# Altium integrated library ISSI SRAM Asynchronous SRAM Lower Power.IntLib: 204 symbols (part 4 of 9)
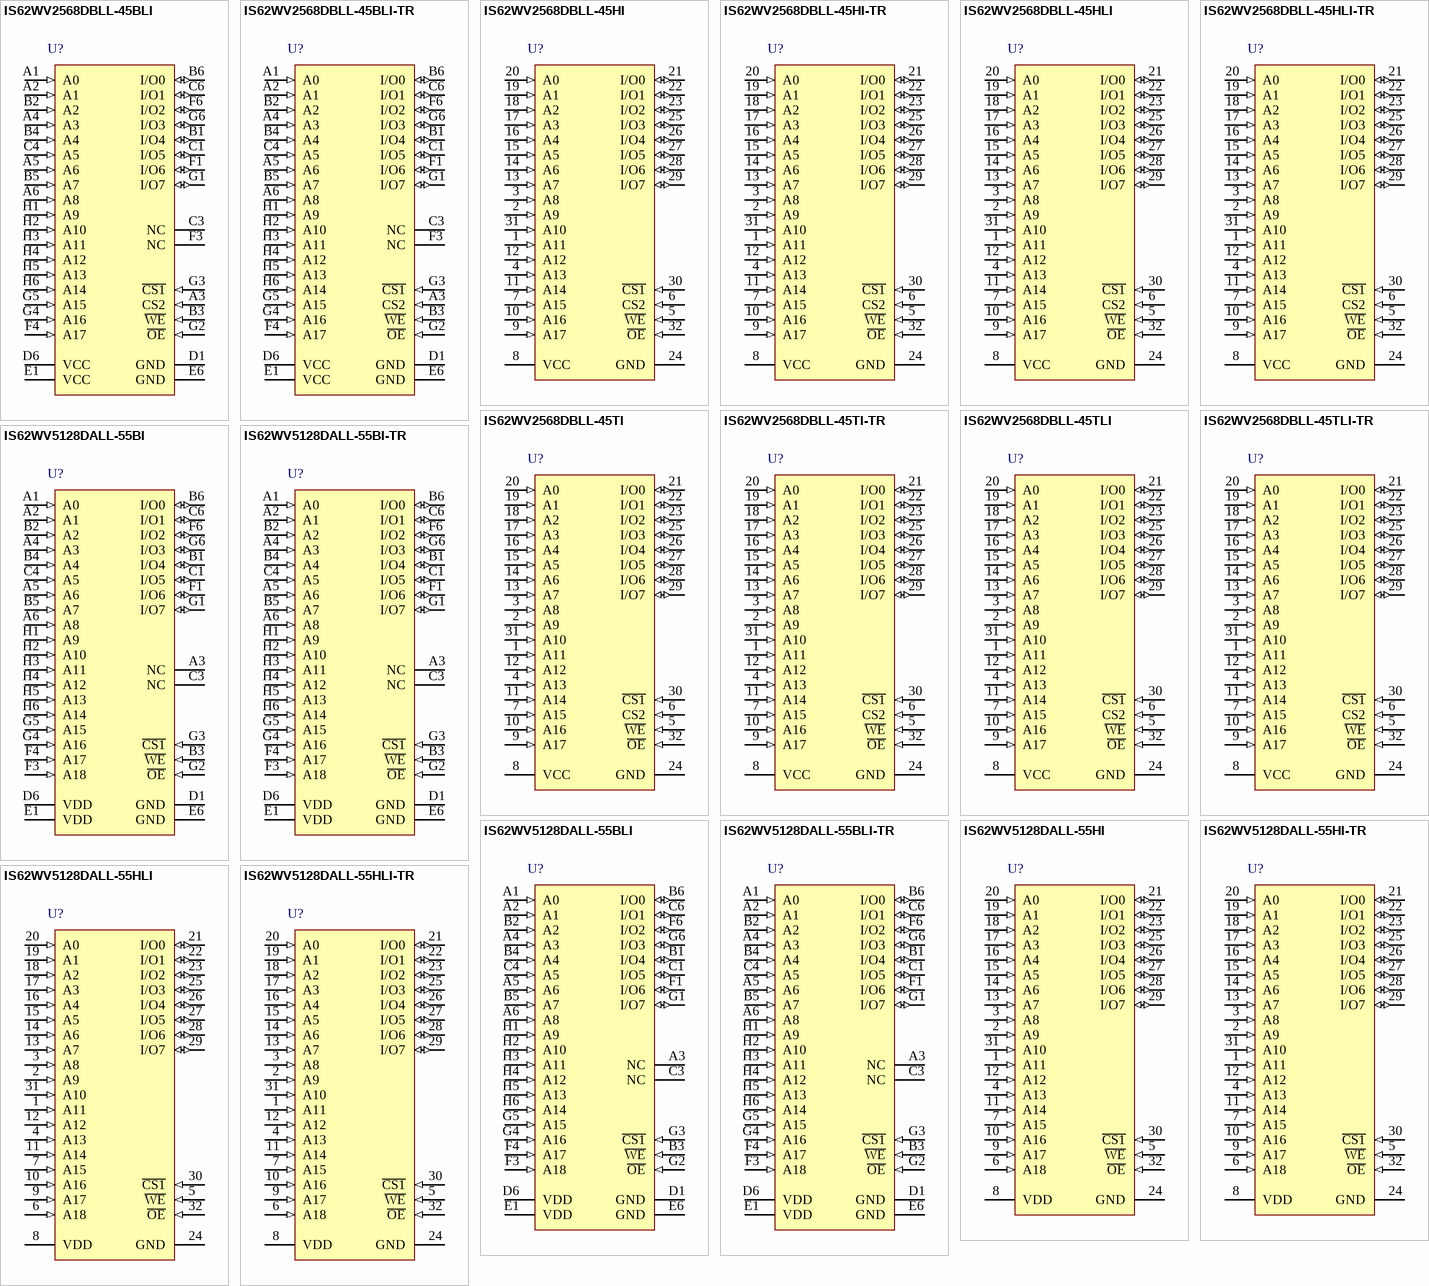
[diagram p14: symbols IS62WV2568DBLL-45BLI to IS62WV5128DALL-55HLI-TR]

## IS62WV5128DALL-55HI-TR
designator U?
4 M Low Voltage, Ultra Low Power CMOS SRAM, 512 K x 8, -40 to 85 degC, 32-Pin SOP (TSOP-1-32); Manufacturer: Integrated Silicon Solution Inc (ISSI); PartNumber: IS62WV5128DALL-55HI-TR; Organization: 512K x 8; Packing: Tape & Reel; Speed (ns): 55; DatasheetVersion: Rev. A; PackageVersion: Rev. B, 04/2003; PackageReference: TSOP-1-32; PackageDescription: 32-Pin 8.00 x 13.4 mm TSOP-1, Pitch 0.5 mm; Mounting Technology: Surface Mount; ComponentLink1Description: Manufacturer URL; ComponentLink1URL: http://www.issi.com/US/index.shtml; ComponentLink2Description: Datasheet; ComponentLink2URL: http://www.issi.com/WW/pdf/62-65WV5128DALL-DBLL.pdf; ComponentLink3Description: Package Specification; ComponentLink3URL: http://www.issi.com/WW/pdf/61-64C1024AL.pdf
footprint ISSI-TSOP-1-32-8000x13400DE_N (SOP, 32-Leads, Body 11.9x8.1mm, Pitch 0.5mm, IPC Medium Density)
pins: 1 A11 (in) "Address Input", 2 A9 (in) "Address Input", 3 A8 (in) "Address Input", 4 A13 (in) "Address Input", 5 ~{WE} (in) "Write Enable Input", 6 A18 (in) "Address Input", 7 A15 (in) "Address Input", 8 VDD (power) "Power", 9 A17 (in) "Address Input", 10 A16 (in) "Address Input", 11 A14 (in) "Address Input", 12 A12 (in) "Address Input", 13 A7 (in) "Address Input", 14 A6 (in) "Address Input", 15 A5 (in) "Address Input", 16 A4 (in) "Address Input", 17 A3 (in) "Address Input", 18 A2 (in) "Address Input", 19 A1 (in) "Address Input", 20 A0 (in) "Address Input", 21 I/O0 (io) "Input/Output", 22 I/O1 (io) "Input/Output", 23 I/O2 (io) "Input/Output", 24 GND (power) "Ground", 25 I/O3 (io) "Input/Output", 26 I/O4 (io) "Input/Output", 27 I/O5 (io) "Input/Output", 28 I/O6 (io) "Input/Output", 29 I/O7 (io) "Input/Output", 30 ~{CS1} (in) "Chip Enable 1 Input", 31 A10 (in) "Address Input", 32 ~{OE} (in) "Output Enable Input"

## IS62WV5128DALL-55HLI
designator U?
4 M Low Voltage, Ultra Low Power CMOS SRAM, 512 K x 8, -40 to 85 degC, 32-Pin SOP (TSOP-1-32), Pb-Free; Manufacturer: Integrated Silicon Solution Inc (ISSI); PartNumber: IS62WV5128DALL-55HLI; Organization: 512K x 8; Packing: Tray / Tube; Speed (ns): 55; DatasheetVersion: Rev. A; PackageVersion: Rev. B, 04/2003; PackageReference: TSOP-1-32; PackageDescription: 32-Pin 8.00 x 13.4 mm TSOP-1, Pitch 0.5 mm; RoHS: Pb-Free; Mounting Technology: Surface Mount; ComponentLink1Description: Manufacturer URL; ComponentLink1URL: http://www.issi.com/US/index.shtml; ComponentLink2Description: Datasheet; ComponentLink2URL: http://www.issi.com/WW/pdf/62-65WV5128DALL-DBLL.pdf; ComponentLink3Description: Package Specification; ComponentLink3URL: http://www.issi.com/WW/pdf/61-64C1024AL.pdf
footprint ISSI-TSOP-1-32-8000x13400DE_N (SOP, 32-Leads, Body 11.9x8.1mm, Pitch 0.5mm, IPC Medium Density)
pins: 1 A11 (in) "Address Input", 2 A9 (in) "Address Input", 3 A8 (in) "Address Input", 4 A13 (in) "Address Input", 5 ~{WE} (in) "Write Enable Input", 6 A18 (in) "Address Input", 7 A15 (in) "Address Input", 8 VDD (power) "Power", 9 A17 (in) "Address Input", 10 A16 (in) "Address Input", 11 A14 (in) "Address Input", 12 A12 (in) "Address Input", 13 A7 (in) "Address Input", 14 A6 (in) "Address Input", 15 A5 (in) "Address Input", 16 A4 (in) "Address Input", 17 A3 (in) "Address Input", 18 A2 (in) "Address Input", 19 A1 (in) "Address Input", 20 A0 (in) "Address Input", 21 I/O0 (io) "Input/Output", 22 I/O1 (io) "Input/Output", 23 I/O2 (io) "Input/Output", 24 GND (power) "Ground", 25 I/O3 (io) "Input/Output", 26 I/O4 (io) "Input/Output", 27 I/O5 (io) "Input/Output", 28 I/O6 (io) "Input/Output", 29 I/O7 (io) "Input/Output", 30 ~{CS1} (in) "Chip Enable 1 Input", 31 A10 (in) "Address Input", 32 ~{OE} (in) "Output Enable Input"

## IS62WV5128DALL-55HLI-TR
designator U?
4 M Low Voltage, Ultra Low Power CMOS SRAM, 512 K x 8, -40 to 85 degC, 32-Pin SOP (TSOP-1-32), Pb-Free; Manufacturer: Integrated Silicon Solution Inc (ISSI); PartNumber: IS62WV5128DALL-55HLI-TR; Organization: 512K x 8; Packing: Tape & Reel; Speed (ns): 55; DatasheetVersion: Rev. A; PackageVersion: Rev. B, 04/2003; PackageReference: TSOP-1-32; PackageDescription: 32-Pin 8.00 x 13.4 mm TSOP-1, Pitch 0.5 mm; RoHS: Pb-Free; Mounting Technology: Surface Mount; ComponentLink1Description: Manufacturer URL; ComponentLink1URL: http://www.issi.com/US/index.shtml; ComponentLink2Description: Datasheet; ComponentLink2URL: http://www.issi.com/WW/pdf/62-65WV5128DALL-DBLL.pdf; ComponentLink3Description: Package Specification; ComponentLink3URL: http://www.issi.com/WW/pdf/61-64C1024AL.pdf
footprint ISSI-TSOP-1-32-8000x13400DE_N (SOP, 32-Leads, Body 11.9x8.1mm, Pitch 0.5mm, IPC Medium Density)
pins: 1 A11 (in) "Address Input", 2 A9 (in) "Address Input", 3 A8 (in) "Address Input", 4 A13 (in) "Address Input", 5 ~{WE} (in) "Write Enable Input", 6 A18 (in) "Address Input", 7 A15 (in) "Address Input", 8 VDD (power) "Power", 9 A17 (in) "Address Input", 10 A16 (in) "Address Input", 11 A14 (in) "Address Input", 12 A12 (in) "Address Input", 13 A7 (in) "Address Input", 14 A6 (in) "Address Input", 15 A5 (in) "Address Input", 16 A4 (in) "Address Input", 17 A3 (in) "Address Input", 18 A2 (in) "Address Input", 19 A1 (in) "Address Input", 20 A0 (in) "Address Input", 21 I/O0 (io) "Input/Output", 22 I/O1 (io) "Input/Output", 23 I/O2 (io) "Input/Output", 24 GND (power) "Ground", 25 I/O3 (io) "Input/Output", 26 I/O4 (io) "Input/Output", 27 I/O5 (io) "Input/Output", 28 I/O6 (io) "Input/Output", 29 I/O7 (io) "Input/Output", 30 ~{CS1} (in) "Chip Enable 1 Input", 31 A10 (in) "Address Input", 32 ~{OE} (in) "Output Enable Input"

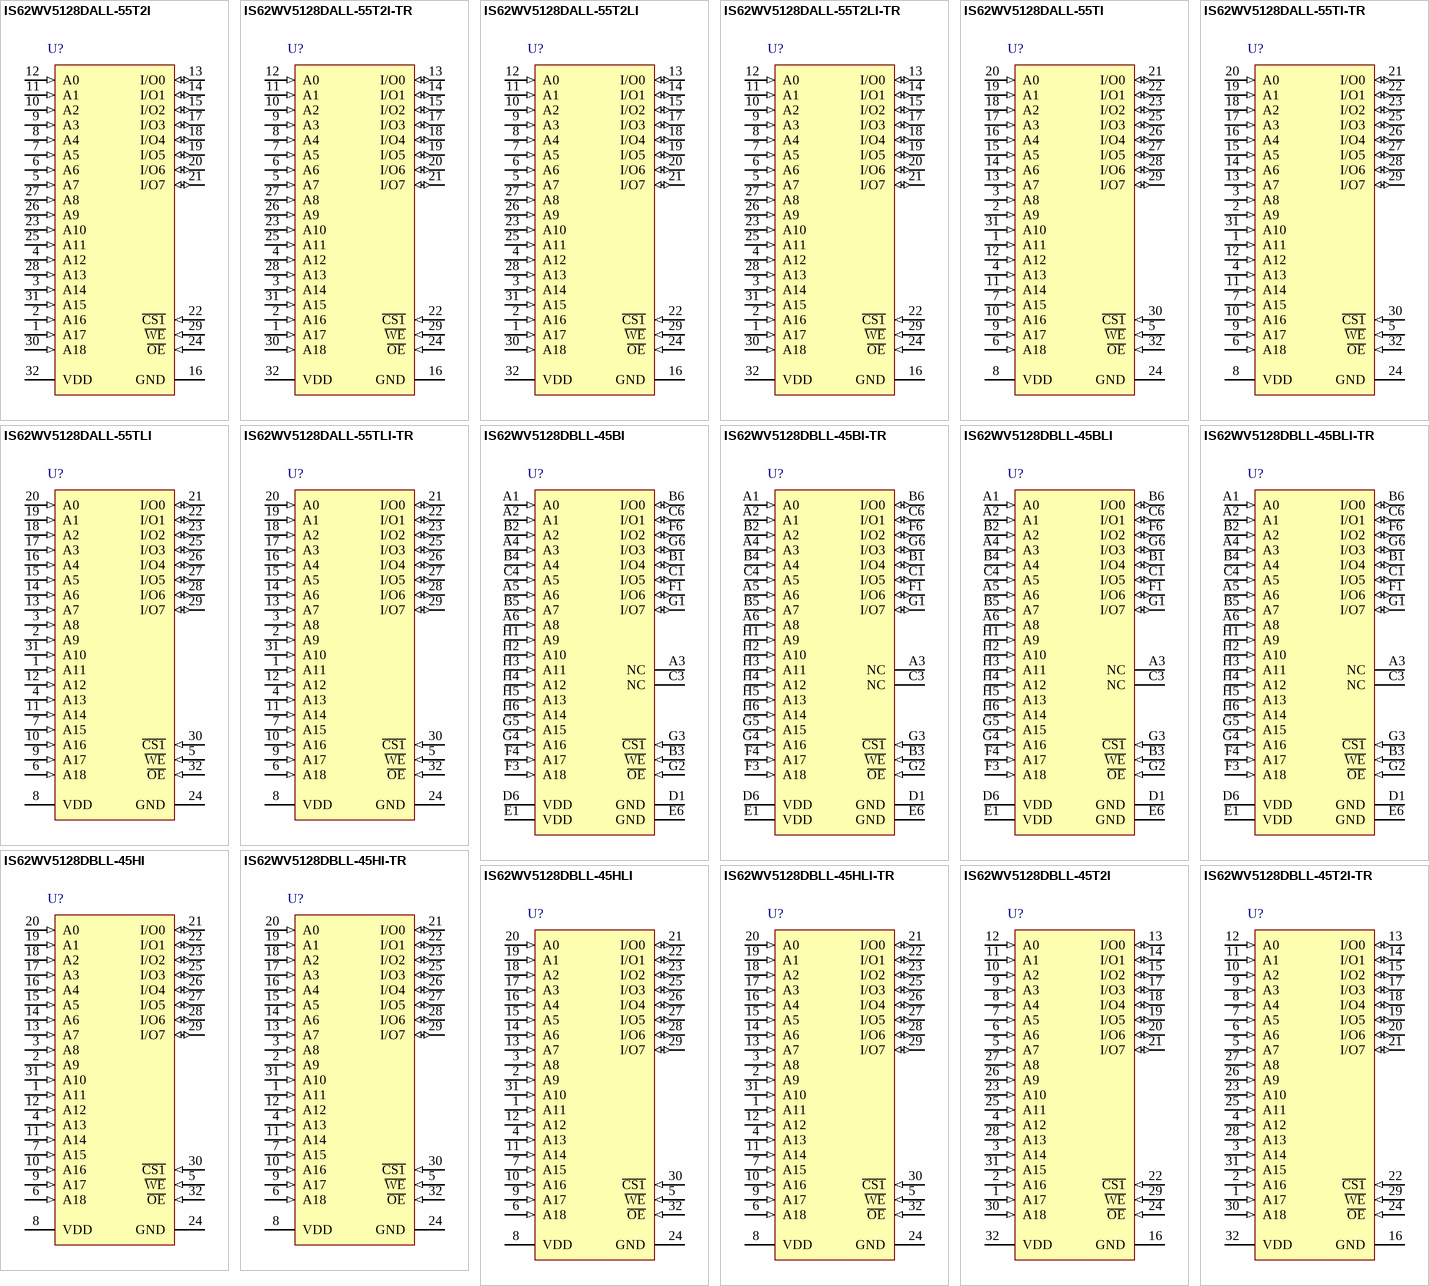
[diagram p4: symbols IS62WV5128DALL-55T2I to IS62WV5128DBLL-45T2I-TR]

## IS62WV5128DALL-55T2I
designator U?
4 M Low Voltage, Ultra Low Power CMOS SRAM, 512 K x 8, -40 to 85 degC, 32-Pin SOP (TSOP-2-32); Manufacturer: Integrated Silicon Solution Inc (ISSI); PartNumber: IS62WV5128DALL-55T2I; Organization: 512K x 8; Packing: Tray / Tube; Speed (ns): 55; DatasheetVersion: Rev. A; PackageVersion: Rev. E, 06/2009; PackageReference: TSOP-2-32; PackageDescription: 32-Pin 400 mil TSOP-2, Body 20.95 x 10.16 mm, Pitch 1.27 mm; Mounting Technology: Surface Mount; ComponentLink1Description: Manufacturer URL; ComponentLink1URL: http://www.issi.com/US/index.shtml; ComponentLink2Description: Datasheet; ComponentLink2URL: http://www.issi.com/WW/pdf/62-65WV5128DALL-DBLL.pdf; ComponentLink3Description: Package Specification; ComponentLink3URL: http://www.issi.com/WW/pdf/61-64WV1288EEBLL.pdf
footprint ISSI-TSOP-2-32_N (SOP, 32-Leads, Body 21.1x10.3mm, Pitch 1.27mm, IPC Medium Density)
pins: 1 A17 (in) "Address Input", 2 A16 (in) "Address Input", 3 A14 (in) "Address Input", 4 A12 (in) "Address Input", 5 A7 (in) "Address Input", 6 A6 (in) "Address Input", 7 A5 (in) "Address Input", 8 A4 (in) "Address Input", 9 A3 (in) "Address Input", 10 A2 (in) "Address Input", 11 A1 (in) "Address Input", 12 A0 (in) "Address Input", 13 I/O0 (io) "Input/Output", 14 I/O1 (io) "Input/Output", 15 I/O2 (io) "Input/Output", 16 GND (power) "Ground", 17 I/O3 (io) "Input/Output", 18 I/O4 (io) "Input/Output", 19 I/O5 (io) "Input/Output", 20 I/O6 (io) "Input/Output", 21 I/O7 (io) "Input/Output", 22 ~{CS1} (in) "Chip Enable 1 Input", 23 A10 (in) "Address Input", 24 ~{OE} (in) "Output Enable Input", 25 A11 (in) "Address Input", 26 A9 (in) "Address Input", 27 A8 (in) "Address Input", 28 A13 (in) "Address Input", 29 ~{WE} (in) "Write Enable Input", 30 A18 (in) "Address Input", 31 A15 (in) "Address Input", 32 VDD (power) "Power"

## IS62WV5128DALL-55T2I-TR
designator U?
4 M Low Voltage, Ultra Low Power CMOS SRAM, 512 K x 8, -40 to 85 degC, 32-Pin SOP (TSOP-2-32); Manufacturer: Integrated Silicon Solution Inc (ISSI); PartNumber: IS62WV5128DALL-55T2I-TR; Organization: 512K x 8; Packing: Tape & Reel; Speed (ns): 55; DatasheetVersion: Rev. A; PackageVersion: Rev. E, 06/2009; PackageReference: TSOP-2-32; PackageDescription: 32-Pin 400 mil TSOP-2, Body 20.95 x 10.16 mm, Pitch 1.27 mm; Mounting Technology: Surface Mount; ComponentLink1Description: Manufacturer URL; ComponentLink1URL: http://www.issi.com/US/index.shtml; ComponentLink2Description: Datasheet; ComponentLink2URL: http://www.issi.com/WW/pdf/62-65WV5128DALL-DBLL.pdf; ComponentLink3Description: Package Specification; ComponentLink3URL: http://www.issi.com/WW/pdf/61-64WV1288EEBLL.pdf
footprint ISSI-TSOP-2-32_N (SOP, 32-Leads, Body 21.1x10.3mm, Pitch 1.27mm, IPC Medium Density)
pins: 1 A17 (in) "Address Input", 2 A16 (in) "Address Input", 3 A14 (in) "Address Input", 4 A12 (in) "Address Input", 5 A7 (in) "Address Input", 6 A6 (in) "Address Input", 7 A5 (in) "Address Input", 8 A4 (in) "Address Input", 9 A3 (in) "Address Input", 10 A2 (in) "Address Input", 11 A1 (in) "Address Input", 12 A0 (in) "Address Input", 13 I/O0 (io) "Input/Output", 14 I/O1 (io) "Input/Output", 15 I/O2 (io) "Input/Output", 16 GND (power) "Ground", 17 I/O3 (io) "Input/Output", 18 I/O4 (io) "Input/Output", 19 I/O5 (io) "Input/Output", 20 I/O6 (io) "Input/Output", 21 I/O7 (io) "Input/Output", 22 ~{CS1} (in) "Chip Enable 1 Input", 23 A10 (in) "Address Input", 24 ~{OE} (in) "Output Enable Input", 25 A11 (in) "Address Input", 26 A9 (in) "Address Input", 27 A8 (in) "Address Input", 28 A13 (in) "Address Input", 29 ~{WE} (in) "Write Enable Input", 30 A18 (in) "Address Input", 31 A15 (in) "Address Input", 32 VDD (power) "Power"

## IS62WV5128DALL-55T2LI
designator U?
4 M Low Voltage, Ultra Low Power CMOS SRAM, 512 K x 8, -40 to 85 degC, 32-Pin SOP (TSOP-2-32), Pb-Free; Manufacturer: Integrated Silicon Solution Inc (ISSI); PartNumber: IS62WV5128DALL-55T2LI; Organization: 512K x 8; Packing: Tray / Tube; Speed (ns): 55; DatasheetVersion: Rev. A; PackageVersion: Rev. E, 06/2009; PackageReference: TSOP-2-32; PackageDescription: 32-Pin 400 mil TSOP-2, Body 20.95 x 10.16 mm, Pitch 1.27 mm; RoHS: Pb-Free; Mounting Technology: Surface Mount; ComponentLink1Description: Manufacturer URL; ComponentLink1URL: http://www.issi.com/US/index.shtml; ComponentLink2Description: Datasheet; ComponentLink2URL: http://www.issi.com/WW/pdf/62-65WV5128DALL-DBLL.pdf; ComponentLink3Description: Package Specification; ComponentLink3URL: http://www.issi.com/WW/pdf/61-64WV1288EEBLL.pdf
footprint ISSI-TSOP-2-32_N (SOP, 32-Leads, Body 21.1x10.3mm, Pitch 1.27mm, IPC Medium Density)
pins: 1 A17 (in) "Address Input", 2 A16 (in) "Address Input", 3 A14 (in) "Address Input", 4 A12 (in) "Address Input", 5 A7 (in) "Address Input", 6 A6 (in) "Address Input", 7 A5 (in) "Address Input", 8 A4 (in) "Address Input", 9 A3 (in) "Address Input", 10 A2 (in) "Address Input", 11 A1 (in) "Address Input", 12 A0 (in) "Address Input", 13 I/O0 (io) "Input/Output", 14 I/O1 (io) "Input/Output", 15 I/O2 (io) "Input/Output", 16 GND (power) "Ground", 17 I/O3 (io) "Input/Output", 18 I/O4 (io) "Input/Output", 19 I/O5 (io) "Input/Output", 20 I/O6 (io) "Input/Output", 21 I/O7 (io) "Input/Output", 22 ~{CS1} (in) "Chip Enable 1 Input", 23 A10 (in) "Address Input", 24 ~{OE} (in) "Output Enable Input", 25 A11 (in) "Address Input", 26 A9 (in) "Address Input", 27 A8 (in) "Address Input", 28 A13 (in) "Address Input", 29 ~{WE} (in) "Write Enable Input", 30 A18 (in) "Address Input", 31 A15 (in) "Address Input", 32 VDD (power) "Power"

## IS62WV5128DALL-55T2LI-TR
designator U?
4 M Low Voltage, Ultra Low Power CMOS SRAM, 512 K x 8, -40 to 85 degC, 32-Pin SOP (TSOP-2-32), Pb-Free; Manufacturer: Integrated Silicon Solution Inc (ISSI); PartNumber: IS62WV5128DALL-55T2LI-TR; Organization: 512K x 8; Packing: Tape & Reel; Speed (ns): 55; DatasheetVersion: Rev. A; PackageVersion: Rev. E, 06/2009; PackageReference: TSOP-2-32; PackageDescription: 32-Pin 400 mil TSOP-2, Body 20.95 x 10.16 mm, Pitch 1.27 mm; RoHS: Pb-Free; Mounting Technology: Surface Mount; ComponentLink1Description: Manufacturer URL; ComponentLink1URL: http://www.issi.com/US/index.shtml; ComponentLink2Description: Datasheet; ComponentLink2URL: http://www.issi.com/WW/pdf/62-65WV5128DALL-DBLL.pdf; ComponentLink3Description: Package Specification; ComponentLink3URL: http://www.issi.com/WW/pdf/61-64WV1288EEBLL.pdf
footprint ISSI-TSOP-2-32_N (SOP, 32-Leads, Body 21.1x10.3mm, Pitch 1.27mm, IPC Medium Density)
pins: 1 A17 (in) "Address Input", 2 A16 (in) "Address Input", 3 A14 (in) "Address Input", 4 A12 (in) "Address Input", 5 A7 (in) "Address Input", 6 A6 (in) "Address Input", 7 A5 (in) "Address Input", 8 A4 (in) "Address Input", 9 A3 (in) "Address Input", 10 A2 (in) "Address Input", 11 A1 (in) "Address Input", 12 A0 (in) "Address Input", 13 I/O0 (io) "Input/Output", 14 I/O1 (io) "Input/Output", 15 I/O2 (io) "Input/Output", 16 GND (power) "Ground", 17 I/O3 (io) "Input/Output", 18 I/O4 (io) "Input/Output", 19 I/O5 (io) "Input/Output", 20 I/O6 (io) "Input/Output", 21 I/O7 (io) "Input/Output", 22 ~{CS1} (in) "Chip Enable 1 Input", 23 A10 (in) "Address Input", 24 ~{OE} (in) "Output Enable Input", 25 A11 (in) "Address Input", 26 A9 (in) "Address Input", 27 A8 (in) "Address Input", 28 A13 (in) "Address Input", 29 ~{WE} (in) "Write Enable Input", 30 A18 (in) "Address Input", 31 A15 (in) "Address Input", 32 VDD (power) "Power"

## IS62WV5128DALL-55TI
designator U?
4 M Low Voltage, Ultra Low Power CMOS SRAM, 512 K x 8, -40 to 85 degC, 32-Pin SOP (TSOP-1-32); Manufacturer: Integrated Silicon Solution Inc (ISSI); PartNumber: IS62WV5128DALL-55TI; Organization: 512K x 8; Packing: Tray / Tube; Speed (ns): 55; DatasheetVersion: Rev. A; PackageVersion: Rev. E, 06/2006; PackageReference: TSOP-1-32; PackageDescription: 32-Pin TSOP-1, Body 8 x 20 mm, Pitch 0.50 mm; Mounting Technology: Surface Mount; ComponentLink1Description: Manufacturer URL; ComponentLink1URL: http://www.issi.com/US/index.shtml; ComponentLink2Description: Datasheet; ComponentLink2URL: http://www.issi.com/WW/pdf/62-65WV5128DALL-DBLL.pdf; ComponentLink3Description: Package Specification; ComponentLink3URL: http://www.issi.com/WW/pdf/61-64C1024AL.pdf
footprint ISSI-TSOP-1-32-8000x20000DE_N (SOP, 32-Leads, Body 18.5x8.2mm, Pitch 0.5mm, IPC Medium Density)
pins: 1 A11 (in) "Address Input", 2 A9 (in) "Address Input", 3 A8 (in) "Address Input", 4 A13 (in) "Address Input", 5 ~{WE} (in) "Write Enable Input", 6 A18 (in) "Address Input", 7 A15 (in) "Address Input", 8 VDD (power) "Power", 9 A17 (in) "Address Input", 10 A16 (in) "Address Input", 11 A14 (in) "Address Input", 12 A12 (in) "Address Input", 13 A7 (in) "Address Input", 14 A6 (in) "Address Input", 15 A5 (in) "Address Input", 16 A4 (in) "Address Input", 17 A3 (in) "Address Input", 18 A2 (in) "Address Input", 19 A1 (in) "Address Input", 20 A0 (in) "Address Input", 21 I/O0 (io) "Input/Output", 22 I/O1 (io) "Input/Output", 23 I/O2 (io) "Input/Output", 24 GND (power) "Ground", 25 I/O3 (io) "Input/Output", 26 I/O4 (io) "Input/Output", 27 I/O5 (io) "Input/Output", 28 I/O6 (io) "Input/Output", 29 I/O7 (io) "Input/Output", 30 ~{CS1} (in) "Chip Enable 1 Input", 31 A10 (in) "Address Input", 32 ~{OE} (in) "Output Enable Input"

## IS62WV5128DALL-55TI-TR
designator U?
4 M Low Voltage, Ultra Low Power CMOS SRAM, 512 K x 8, -40 to 85 degC, 32-Pin SOP (TSOP-1-32); Manufacturer: Integrated Silicon Solution Inc (ISSI); PartNumber: IS62WV5128DALL-55TI-TR; Organization: 512K x 8; Packing: Tape & Reel; Speed (ns): 55; DatasheetVersion: Rev. A; PackageVersion: Rev. E, 06/2006; PackageReference: TSOP-1-32; PackageDescription: 32-Pin TSOP-1, Body 8 x 20 mm, Pitch 0.50 mm; Mounting Technology: Surface Mount; ComponentLink1Description: Manufacturer URL; ComponentLink1URL: http://www.issi.com/US/index.shtml; ComponentLink2Description: Datasheet; ComponentLink2URL: http://www.issi.com/WW/pdf/62-65WV5128DALL-DBLL.pdf; ComponentLink3Description: Package Specification; ComponentLink3URL: http://www.issi.com/WW/pdf/61-64C1024AL.pdf
footprint ISSI-TSOP-1-32-8000x20000DE_N (SOP, 32-Leads, Body 18.5x8.2mm, Pitch 0.5mm, IPC Medium Density)
pins: 1 A11 (in) "Address Input", 2 A9 (in) "Address Input", 3 A8 (in) "Address Input", 4 A13 (in) "Address Input", 5 ~{WE} (in) "Write Enable Input", 6 A18 (in) "Address Input", 7 A15 (in) "Address Input", 8 VDD (power) "Power", 9 A17 (in) "Address Input", 10 A16 (in) "Address Input", 11 A14 (in) "Address Input", 12 A12 (in) "Address Input", 13 A7 (in) "Address Input", 14 A6 (in) "Address Input", 15 A5 (in) "Address Input", 16 A4 (in) "Address Input", 17 A3 (in) "Address Input", 18 A2 (in) "Address Input", 19 A1 (in) "Address Input", 20 A0 (in) "Address Input", 21 I/O0 (io) "Input/Output", 22 I/O1 (io) "Input/Output", 23 I/O2 (io) "Input/Output", 24 GND (power) "Ground", 25 I/O3 (io) "Input/Output", 26 I/O4 (io) "Input/Output", 27 I/O5 (io) "Input/Output", 28 I/O6 (io) "Input/Output", 29 I/O7 (io) "Input/Output", 30 ~{CS1} (in) "Chip Enable 1 Input", 31 A10 (in) "Address Input", 32 ~{OE} (in) "Output Enable Input"

## IS62WV5128DALL-55TLI
designator U?
4 M Low Voltage, Ultra Low Power CMOS SRAM, 512 K x 8, -40 to 85 degC, 32-Pin SOP (TSOP-1-32), Pb-Free; Manufacturer: Integrated Silicon Solution Inc (ISSI); PartNumber: IS62WV5128DALL-55TLI; Organization: 512K x 8; Packing: Tray / Tube; Speed (ns): 55; DatasheetVersion: Rev. A; PackageVersion: Rev. E, 06/2006; PackageReference: TSOP-1-32; PackageDescription: 32-Pin TSOP-1, Body 8 x 20 mm, Pitch 0.50 mm; RoHS: Pb-Free; Mounting Technology: Surface Mount; ComponentLink1Description: Manufacturer URL; ComponentLink1URL: http://www.issi.com/US/index.shtml; ComponentLink2Description: Datasheet; ComponentLink2URL: http://www.issi.com/WW/pdf/62-65WV5128DALL-DBLL.pdf; ComponentLink3Description: Package Specification; ComponentLink3URL: http://www.issi.com/WW/pdf/61-64C1024AL.pdf
footprint ISSI-TSOP-1-32-8000x20000DE_N (SOP, 32-Leads, Body 18.5x8.2mm, Pitch 0.5mm, IPC Medium Density)
pins: 1 A11 (in) "Address Input", 2 A9 (in) "Address Input", 3 A8 (in) "Address Input", 4 A13 (in) "Address Input", 5 ~{WE} (in) "Write Enable Input", 6 A18 (in) "Address Input", 7 A15 (in) "Address Input", 8 VDD (power) "Power", 9 A17 (in) "Address Input", 10 A16 (in) "Address Input", 11 A14 (in) "Address Input", 12 A12 (in) "Address Input", 13 A7 (in) "Address Input", 14 A6 (in) "Address Input", 15 A5 (in) "Address Input", 16 A4 (in) "Address Input", 17 A3 (in) "Address Input", 18 A2 (in) "Address Input", 19 A1 (in) "Address Input", 20 A0 (in) "Address Input", 21 I/O0 (io) "Input/Output", 22 I/O1 (io) "Input/Output", 23 I/O2 (io) "Input/Output", 24 GND (power) "Ground", 25 I/O3 (io) "Input/Output", 26 I/O4 (io) "Input/Output", 27 I/O5 (io) "Input/Output", 28 I/O6 (io) "Input/Output", 29 I/O7 (io) "Input/Output", 30 ~{CS1} (in) "Chip Enable 1 Input", 31 A10 (in) "Address Input", 32 ~{OE} (in) "Output Enable Input"

## IS62WV5128DALL-55TLI-TR
designator U?
4 M Low Voltage, Ultra Low Power CMOS SRAM, 512 K x 8, -40 to 85 degC, 32-Pin SOP (TSOP-1-32), Pb-Free; Manufacturer: Integrated Silicon Solution Inc (ISSI); PartNumber: IS62WV5128DALL-55TLI-TR; Organization: 512K x 8; Packing: Tape & Reel; Speed (ns): 55; DatasheetVersion: Rev. A; PackageVersion: Rev. E, 06/2006; PackageReference: TSOP-1-32; PackageDescription: 32-Pin TSOP-1, Body 8 x 20 mm, Pitch 0.50 mm; RoHS: Pb-Free; Mounting Technology: Surface Mount; ComponentLink1Description: Manufacturer URL; ComponentLink1URL: http://www.issi.com/US/index.shtml; ComponentLink2Description: Datasheet; ComponentLink2URL: http://www.issi.com/WW/pdf/62-65WV5128DALL-DBLL.pdf; ComponentLink3Description: Package Specification; ComponentLink3URL: http://www.issi.com/WW/pdf/61-64C1024AL.pdf
footprint ISSI-TSOP-1-32-8000x20000DE_N (SOP, 32-Leads, Body 18.5x8.2mm, Pitch 0.5mm, IPC Medium Density)
pins: 1 A11 (in) "Address Input", 2 A9 (in) "Address Input", 3 A8 (in) "Address Input", 4 A13 (in) "Address Input", 5 ~{WE} (in) "Write Enable Input", 6 A18 (in) "Address Input", 7 A15 (in) "Address Input", 8 VDD (power) "Power", 9 A17 (in) "Address Input", 10 A16 (in) "Address Input", 11 A14 (in) "Address Input", 12 A12 (in) "Address Input", 13 A7 (in) "Address Input", 14 A6 (in) "Address Input", 15 A5 (in) "Address Input", 16 A4 (in) "Address Input", 17 A3 (in) "Address Input", 18 A2 (in) "Address Input", 19 A1 (in) "Address Input", 20 A0 (in) "Address Input", 21 I/O0 (io) "Input/Output", 22 I/O1 (io) "Input/Output", 23 I/O2 (io) "Input/Output", 24 GND (power) "Ground", 25 I/O3 (io) "Input/Output", 26 I/O4 (io) "Input/Output", 27 I/O5 (io) "Input/Output", 28 I/O6 (io) "Input/Output", 29 I/O7 (io) "Input/Output", 30 ~{CS1} (in) "Chip Enable 1 Input", 31 A10 (in) "Address Input", 32 ~{OE} (in) "Output Enable Input"

## IS62WV5128DBLL-45BI
designator U?
4 M Low Voltage, Ultra Low Power CMOS SRAM, 512 K x 8, -40 to 85 degC, 36-Pin BGA (TF-BGA-36); Manufacturer: Integrated Silicon Solution Inc (ISSI); PartNumber: IS62WV5128DBLL-45BI; Organization: 512K x 8; Packing: Tray / Tube; Speed (ns): 45; DatasheetVersion: Rev. A; PackageVersion: Rev. E, 08/2008; PackageReference: TF-BGA-36; PackageDescription: 36-Pin 6 x 8 mm TF-BGA, Pitch 0.75 mm; Mounting Technology: Surface Mount; Code_JEDEC: MO-207; ComponentLink1Description: Manufacturer URL; ComponentLink1URL: http://www.issi.com/US/index.shtml; ComponentLink2Description: Datasheet; ComponentLink2URL: http://www.issi.com/WW/pdf/62-65WV5128DALL-DBLL.pdf; ComponentLink3Description: Package Specification; ComponentLink3URL: http://www.issi.com/WW/pdf/62-65WV2568DALL_BLL.pdf
footprint ISSI-TF-BGA-36-6000x8000DE (BGA, 36-Balls, Body 8x6mm, Pitch 0.75mm)
pins: A1 A0 (in) "Address Input", A2 A1 (in) "Address Input", A3 NC "No Connection", A4 A3 (in) "Address Input", A5 A6 (in) "Address Input", A6 A8 (in) "Address Input", B1 I/O4 (io) "Input/Output", B2 A2 (in) "Address Input", B3 ~{WE} (in) "Write Enable Input", B4 A4 (in) "Address Input", B5 A7 (in) "Address Input", B6 I/O0 (io) "Input/Output", C1 I/O5 (io) "Input/Output", C3 NC "No Connection", C4 A5 (in) "Address Input", C6 I/O1 (io) "Input/Output", D1 GND (power) "Ground", D6 VDD (power) "Power", E1 VDD (power) "Power", E6 GND (power) "Ground", F1 I/O6 (io) "Input/Output", F3 A18 (in) "Address Input", F4 A17 (in) "Address Input", F6 I/O2 (io) "Input/Output", G1 I/O7 (io) "Input/Output", G2 ~{OE} (in) "Output Enable Input", G3 ~{CS1} (in) "Chip Enable 1 Input", G4 A16 (in) "Address Input", G5 A15 (in) "Address Input", G6 I/O3 (io) "Input/Output", H1 A9 (in) "Address Input", H2 A10 (in) "Address Input", H3 A11 (in) "Address Input", H4 A12 (in) "Address Input", H5 A13 (in) "Address Input", H6 A14 (in) "Address Input"

## IS62WV5128DBLL-45BI-TR
designator U?
4 M Low Voltage, Ultra Low Power CMOS SRAM, 512 K x 8, -40 to 85 degC, 36-Pin BGA (TF-BGA-36); Manufacturer: Integrated Silicon Solution Inc (ISSI); PartNumber: IS62WV5128DBLL-45BI-TR; Organization: 512K x 8; Packing: Tape & Reel; Speed (ns): 45; DatasheetVersion: Rev. A; PackageVersion: Rev. E, 08/2008; PackageReference: TF-BGA-36; PackageDescription: 36-Pin 6 x 8 mm TF-BGA, Pitch 0.75 mm; Mounting Technology: Surface Mount; Code_JEDEC: MO-207; ComponentLink1Description: Manufacturer URL; ComponentLink1URL: http://www.issi.com/US/index.shtml; ComponentLink2Description: Datasheet; ComponentLink2URL: http://www.issi.com/WW/pdf/62-65WV5128DALL-DBLL.pdf; ComponentLink3Description: Package Specification; ComponentLink3URL: http://www.issi.com/WW/pdf/62-65WV2568DALL_BLL.pdf
footprint ISSI-TF-BGA-36-6000x8000DE (BGA, 36-Balls, Body 8x6mm, Pitch 0.75mm)
pins: A1 A0 (in) "Address Input", A2 A1 (in) "Address Input", A3 NC "No Connection", A4 A3 (in) "Address Input", A5 A6 (in) "Address Input", A6 A8 (in) "Address Input", B1 I/O4 (io) "Input/Output", B2 A2 (in) "Address Input", B3 ~{WE} (in) "Write Enable Input", B4 A4 (in) "Address Input", B5 A7 (in) "Address Input", B6 I/O0 (io) "Input/Output", C1 I/O5 (io) "Input/Output", C3 NC "No Connection", C4 A5 (in) "Address Input", C6 I/O1 (io) "Input/Output", D1 GND (power) "Ground", D6 VDD (power) "Power", E1 VDD (power) "Power", E6 GND (power) "Ground", F1 I/O6 (io) "Input/Output", F3 A18 (in) "Address Input", F4 A17 (in) "Address Input", F6 I/O2 (io) "Input/Output", G1 I/O7 (io) "Input/Output", G2 ~{OE} (in) "Output Enable Input", G3 ~{CS1} (in) "Chip Enable 1 Input", G4 A16 (in) "Address Input", G5 A15 (in) "Address Input", G6 I/O3 (io) "Input/Output", H1 A9 (in) "Address Input", H2 A10 (in) "Address Input", H3 A11 (in) "Address Input", H4 A12 (in) "Address Input", H5 A13 (in) "Address Input", H6 A14 (in) "Address Input"

## IS62WV5128DBLL-45BLI
designator U?
4 M Low Voltage, Ultra Low Power CMOS SRAM, 512 K x 8, -40 to 85 degC, 48-Pin BGA (TF-BGA-48), Pb-Free; Manufacturer: Integrated Silicon Solution Inc (ISSI); PartNumber: IS62WV5128DBLL-45BLI; Organization: 512K x 8; Packing: Tray / Tube; Speed (ns): 45; DatasheetVersion: Rev. A; PackageVersion: Rev. C, 08/2008; PackageReference: TF-BGA-48; PackageDescription: 48-Pin 6 x 8 mm TF-BGA, Pitch 0.75 mm; Supplier 1: Mouser; Supplier Part Number 1: 870-2WV5128DBLL45BLI; RoHS: Pb-Free; Mounting Technology: Surface Mount; Code_JEDEC: MO-207; ComponentLink1Description: Manufacturer URL; ComponentLink1URL: http://www.issi.com/US/index.shtml; ComponentLink2Description: Datasheet; ComponentLink2URL: http://www.issi.com/WW/pdf/62-65WV5128DALL-DBLL.pdf; ComponentLink3Description: Package Specification; ComponentLink3URL: http://www.issi.com/WW/pdf/61-64WV25616.pdf
footprint ISSI-TF-BGA-48-6000X8000DE (BGA, 48-Balls, Body 8x6mm, Pitch 0.75mm)
pins: A1 A0 (in) "Address Input", A2 A1 (in) "Address Input", A3 NC "No Connection", A4 A3 (in) "Address Input", A5 A6 (in) "Address Input", A6 A8 (in) "Address Input", B1 I/O4 (io) "Input/Output", B2 A2 (in) "Address Input", B3 ~{WE} (in) "Write Enable Input", B4 A4 (in) "Address Input", B5 A7 (in) "Address Input", B6 I/O0 (io) "Input/Output", C1 I/O5 (io) "Input/Output", C3 NC "No Connection", C4 A5 (in) "Address Input", C6 I/O1 (io) "Input/Output", D1 GND (power) "Ground", D6 VDD (power) "Power", E1 VDD (power) "Power", E6 GND (power) "Ground", F1 I/O6 (io) "Input/Output", F3 A18 (in) "Address Input", F4 A17 (in) "Address Input", F6 I/O2 (io) "Input/Output", G1 I/O7 (io) "Input/Output", G2 ~{OE} (in) "Output Enable Input", G3 ~{CS1} (in) "Chip Enable 1 Input", G4 A16 (in) "Address Input", G5 A15 (in) "Address Input", G6 I/O3 (io) "Input/Output", H1 A9 (in) "Address Input", H2 A10 (in) "Address Input", H3 A11 (in) "Address Input", H4 A12 (in) "Address Input", H5 A13 (in) "Address Input", H6 A14 (in) "Address Input"

## IS62WV5128DBLL-45BLI-TR
designator U?
4 M Low Voltage, Ultra Low Power CMOS SRAM, 512 K x 8, -40 to 85 degC, 36-Pin BGA (TF-BGA-36), Pb-Free; Manufacturer: Integrated Silicon Solution Inc (ISSI); PartNumber: IS62WV5128DBLL-45BLI-TR; Organization: 512K x 8; Packing: Tape & Reel; Speed (ns): 45; DatasheetVersion: Rev. A; PackageVersion: Rev. E, 08/2008; PackageReference: TF-BGA-36; PackageDescription: 36-Pin 6 x 8 mm TF-BGA, Pitch 0.75 mm; Supplier 1: Mouser; Supplier Part Number 1: 870-2WV5128BLL45BLIT; RoHS: Pb-Free; Mounting Technology: Surface Mount; Code_JEDEC: MO-207; ComponentLink1Description: Manufacturer URL; ComponentLink1URL: http://www.issi.com/US/index.shtml; ComponentLink2Description: Datasheet; ComponentLink2URL: http://www.issi.com/WW/pdf/62-65WV5128DALL-DBLL.pdf; ComponentLink3Description: Package Specification; ComponentLink3URL: http://www.issi.com/WW/pdf/62-65WV2568DALL_BLL.pdf
footprint ISSI-TF-BGA-36-6000x8000DE (BGA, 36-Balls, Body 8x6mm, Pitch 0.75mm)
pins: A1 A0 (in) "Address Input", A2 A1 (in) "Address Input", A3 NC "No Connection", A4 A3 (in) "Address Input", A5 A6 (in) "Address Input", A6 A8 (in) "Address Input", B1 I/O4 (io) "Input/Output", B2 A2 (in) "Address Input", B3 ~{WE} (in) "Write Enable Input", B4 A4 (in) "Address Input", B5 A7 (in) "Address Input", B6 I/O0 (io) "Input/Output", C1 I/O5 (io) "Input/Output", C3 NC "No Connection", C4 A5 (in) "Address Input", C6 I/O1 (io) "Input/Output", D1 GND (power) "Ground", D6 VDD (power) "Power", E1 VDD (power) "Power", E6 GND (power) "Ground", F1 I/O6 (io) "Input/Output", F3 A18 (in) "Address Input", F4 A17 (in) "Address Input", F6 I/O2 (io) "Input/Output", G1 I/O7 (io) "Input/Output", G2 ~{OE} (in) "Output Enable Input", G3 ~{CS1} (in) "Chip Enable 1 Input", G4 A16 (in) "Address Input", G5 A15 (in) "Address Input", G6 I/O3 (io) "Input/Output", H1 A9 (in) "Address Input", H2 A10 (in) "Address Input", H3 A11 (in) "Address Input", H4 A12 (in) "Address Input", H5 A13 (in) "Address Input", H6 A14 (in) "Address Input"

## IS62WV5128DBLL-45HI
designator U?
4 M Low Voltage, Ultra Low Power CMOS SRAM, 512 K x 8, -40 to 85 degC, 32-Pin SOP (TSOP-1-32); Manufacturer: Integrated Silicon Solution Inc (ISSI); PartNumber: IS62WV5128DBLL-45HI; Organization: 512K x 8; Packing: Tray / Tube; Speed (ns): 45; DatasheetVersion: Rev. A; PackageVersion: Rev. B, 04/2003; PackageReference: TSOP-1-32; PackageDescription: 32-Pin 8.00 x 13.4 mm TSOP-1, Pitch 0.5 mm; Mounting Technology: Surface Mount; ComponentLink1Description: Manufacturer URL; ComponentLink1URL: http://www.issi.com/US/index.shtml; ComponentLink2Description: Datasheet; ComponentLink2URL: http://www.issi.com/WW/pdf/62-65WV5128DALL-DBLL.pdf; ComponentLink3Description: Package Specification; ComponentLink3URL: http://www.issi.com/WW/pdf/61-64C1024AL.pdf
footprint ISSI-TSOP-1-32-8000x13400DE_N (SOP, 32-Leads, Body 11.9x8.1mm, Pitch 0.5mm, IPC Medium Density)
pins: 1 A11 (in) "Address Input", 2 A9 (in) "Address Input", 3 A8 (in) "Address Input", 4 A13 (in) "Address Input", 5 ~{WE} (in) "Write Enable Input", 6 A18 (in) "Address Input", 7 A15 (in) "Address Input", 8 VDD (power) "Power", 9 A17 (in) "Address Input", 10 A16 (in) "Address Input", 11 A14 (in) "Address Input", 12 A12 (in) "Address Input", 13 A7 (in) "Address Input", 14 A6 (in) "Address Input", 15 A5 (in) "Address Input", 16 A4 (in) "Address Input", 17 A3 (in) "Address Input", 18 A2 (in) "Address Input", 19 A1 (in) "Address Input", 20 A0 (in) "Address Input", 21 I/O0 (io) "Input/Output", 22 I/O1 (io) "Input/Output", 23 I/O2 (io) "Input/Output", 24 GND (power) "Ground", 25 I/O3 (io) "Input/Output", 26 I/O4 (io) "Input/Output", 27 I/O5 (io) "Input/Output", 28 I/O6 (io) "Input/Output", 29 I/O7 (io) "Input/Output", 30 ~{CS1} (in) "Chip Enable 1 Input", 31 A10 (in) "Address Input", 32 ~{OE} (in) "Output Enable Input"

## IS62WV5128DBLL-45HI-TR
designator U?
4 M Low Voltage, Ultra Low Power CMOS SRAM, 512 K x 8, -40 to 85 degC, 32-Pin SOP (TSOP-1-32); Manufacturer: Integrated Silicon Solution Inc (ISSI); PartNumber: IS62WV5128DBLL-45HI-TR; Organization: 512K x 8; Packing: Tape & Reel; Speed (ns): 45; DatasheetVersion: Rev. A; PackageVersion: Rev. B, 04/2003; PackageReference: TSOP-1-32; PackageDescription: 32-Pin 8.00 x 13.4 mm TSOP-1, Pitch 0.5 mm; Mounting Technology: Surface Mount; ComponentLink1Description: Manufacturer URL; ComponentLink1URL: http://www.issi.com/US/index.shtml; ComponentLink2Description: Datasheet; ComponentLink2URL: http://www.issi.com/WW/pdf/62-65WV5128DALL-DBLL.pdf; ComponentLink3Description: Package Specification; ComponentLink3URL: http://www.issi.com/WW/pdf/61-64C1024AL.pdf
footprint ISSI-TSOP-1-32-8000x13400DE_N (SOP, 32-Leads, Body 11.9x8.1mm, Pitch 0.5mm, IPC Medium Density)
pins: 1 A11 (in) "Address Input", 2 A9 (in) "Address Input", 3 A8 (in) "Address Input", 4 A13 (in) "Address Input", 5 ~{WE} (in) "Write Enable Input", 6 A18 (in) "Address Input", 7 A15 (in) "Address Input", 8 VDD (power) "Power", 9 A17 (in) "Address Input", 10 A16 (in) "Address Input", 11 A14 (in) "Address Input", 12 A12 (in) "Address Input", 13 A7 (in) "Address Input", 14 A6 (in) "Address Input", 15 A5 (in) "Address Input", 16 A4 (in) "Address Input", 17 A3 (in) "Address Input", 18 A2 (in) "Address Input", 19 A1 (in) "Address Input", 20 A0 (in) "Address Input", 21 I/O0 (io) "Input/Output", 22 I/O1 (io) "Input/Output", 23 I/O2 (io) "Input/Output", 24 GND (power) "Ground", 25 I/O3 (io) "Input/Output", 26 I/O4 (io) "Input/Output", 27 I/O5 (io) "Input/Output", 28 I/O6 (io) "Input/Output", 29 I/O7 (io) "Input/Output", 30 ~{CS1} (in) "Chip Enable 1 Input", 31 A10 (in) "Address Input", 32 ~{OE} (in) "Output Enable Input"

## IS62WV5128DBLL-45HLI
designator U?
4 M Low Voltage, Ultra Low Power CMOS SRAM, 512 K x 8, -40 to 85 degC, 32-Pin SOP (TSOP-1-32), Pb-Free; Manufacturer: Integrated Silicon Solution Inc (ISSI); PartNumber: IS62WV5128DBLL-45HLI; Organization: 512K x 8; Packing: Tray / Tube; Speed (ns): 45; DatasheetVersion: Rev. A; PackageVersion: Rev. B, 04/2003; PackageReference: TSOP-1-32; PackageDescription: 32-Pin 8.00 x 13.4 mm TSOP-1, Pitch 0.5 mm; Supplier 1: Digi-Key; Supplier Part Number 1: 706-1150-ND; Supplier 2: Mouser; Supplier Part Number 2: 870-62WV5128DB45HLI; RoHS: Pb-Free; Mounting Technology: Surface Mount; ComponentLink1Description: Manufacturer URL; ComponentLink1URL: http://www.issi.com/US/index.shtml; ComponentLink2Description: Datasheet; ComponentLink2URL: http://www.issi.com/WW/pdf/62-65WV5128DALL-DBLL.pdf; ComponentLink3Description: Package Specification; ComponentLink3URL: http://www.issi.com/WW/pdf/61-64C1024AL.pdf
footprint ISSI-TSOP-1-32-8000x13400DE_N (SOP, 32-Leads, Body 11.9x8.1mm, Pitch 0.5mm, IPC Medium Density)
pins: 1 A11 (in) "Address Input", 2 A9 (in) "Address Input", 3 A8 (in) "Address Input", 4 A13 (in) "Address Input", 5 ~{WE} (in) "Write Enable Input", 6 A18 (in) "Address Input", 7 A15 (in) "Address Input", 8 VDD (power) "Power", 9 A17 (in) "Address Input", 10 A16 (in) "Address Input", 11 A14 (in) "Address Input", 12 A12 (in) "Address Input", 13 A7 (in) "Address Input", 14 A6 (in) "Address Input", 15 A5 (in) "Address Input", 16 A4 (in) "Address Input", 17 A3 (in) "Address Input", 18 A2 (in) "Address Input", 19 A1 (in) "Address Input", 20 A0 (in) "Address Input", 21 I/O0 (io) "Input/Output", 22 I/O1 (io) "Input/Output", 23 I/O2 (io) "Input/Output", 24 GND (power) "Ground", 25 I/O3 (io) "Input/Output", 26 I/O4 (io) "Input/Output", 27 I/O5 (io) "Input/Output", 28 I/O6 (io) "Input/Output", 29 I/O7 (io) "Input/Output", 30 ~{CS1} (in) "Chip Enable 1 Input", 31 A10 (in) "Address Input", 32 ~{OE} (in) "Output Enable Input"

## IS62WV5128DBLL-45HLI-TR
designator U?
4 M Low Voltage, Ultra Low Power CMOS SRAM, 512 K x 8, -40 to 85 degC, 32-Pin SOP (TSOP-1-32), Pb-Free; Manufacturer: Integrated Silicon Solution Inc (ISSI); PartNumber: IS62WV5128DBLL-45HLI-TR; Organization: 512K x 8; Packing: Tape & Reel; Speed (ns): 45; DatasheetVersion: Rev. A; PackageVersion: Rev. B, 04/2003; PackageReference: TSOP-1-32; PackageDescription: 32-Pin 8.00 x 13.4 mm TSOP-1, Pitch 0.5 mm; Supplier 1: Mouser; Supplier Part Number 1: 870-62WV5128DB45HLIT; RoHS: Pb-Free; Mounting Technology: Surface Mount; ComponentLink1Description: Manufacturer URL; ComponentLink1URL: http://www.issi.com/US/index.shtml; ComponentLink2Description: Datasheet; ComponentLink2URL: http://www.issi.com/WW/pdf/62-65WV5128DALL-DBLL.pdf; ComponentLink3Description: Package Specification; ComponentLink3URL: http://www.issi.com/WW/pdf/61-64C1024AL.pdf
footprint ISSI-TSOP-1-32-8000x13400DE_N (SOP, 32-Leads, Body 11.9x8.1mm, Pitch 0.5mm, IPC Medium Density)
pins: 1 A11 (in) "Address Input", 2 A9 (in) "Address Input", 3 A8 (in) "Address Input", 4 A13 (in) "Address Input", 5 ~{WE} (in) "Write Enable Input", 6 A18 (in) "Address Input", 7 A15 (in) "Address Input", 8 VDD (power) "Power", 9 A17 (in) "Address Input", 10 A16 (in) "Address Input", 11 A14 (in) "Address Input", 12 A12 (in) "Address Input", 13 A7 (in) "Address Input", 14 A6 (in) "Address Input", 15 A5 (in) "Address Input", 16 A4 (in) "Address Input", 17 A3 (in) "Address Input", 18 A2 (in) "Address Input", 19 A1 (in) "Address Input", 20 A0 (in) "Address Input", 21 I/O0 (io) "Input/Output", 22 I/O1 (io) "Input/Output", 23 I/O2 (io) "Input/Output", 24 GND (power) "Ground", 25 I/O3 (io) "Input/Output", 26 I/O4 (io) "Input/Output", 27 I/O5 (io) "Input/Output", 28 I/O6 (io) "Input/Output", 29 I/O7 (io) "Input/Output", 30 ~{CS1} (in) "Chip Enable 1 Input", 31 A10 (in) "Address Input", 32 ~{OE} (in) "Output Enable Input"

## IS62WV5128DBLL-45T2I
designator U?
4 M Low Voltage, Ultra Low Power CMOS SRAM, 512 K x 8, -40 to 85 degC, 32-Pin SOP (TSOP-2-32); Manufacturer: Integrated Silicon Solution Inc (ISSI); PartNumber: IS62WV5128DBLL-45T2I; Organization: 512K x 8; Packing: Tray / Tube; Speed (ns): 45; DatasheetVersion: Rev. A; PackageVersion: Rev. E, 06/2009; PackageReference: TSOP-2-32; PackageDescription: 32-Pin 400 mil TSOP-2, Body 20.95 x 10.16 mm, Pitch 1.27 mm; Mounting Technology: Surface Mount; ComponentLink1Description: Manufacturer URL; ComponentLink1URL: http://www.issi.com/US/index.shtml; ComponentLink2Description: Datasheet; ComponentLink2URL: http://www.issi.com/WW/pdf/62-65WV5128DALL-DBLL.pdf; ComponentLink3Description: Package Specification; ComponentLink3URL: http://www.issi.com/WW/pdf/61-64WV1288EEBLL.pdf
footprint ISSI-TSOP-2-32_N (SOP, 32-Leads, Body 21.1x10.3mm, Pitch 1.27mm, IPC Medium Density)
pins: 1 A17 (in) "Address Input", 2 A16 (in) "Address Input", 3 A14 (in) "Address Input", 4 A12 (in) "Address Input", 5 A7 (in) "Address Input", 6 A6 (in) "Address Input", 7 A5 (in) "Address Input", 8 A4 (in) "Address Input", 9 A3 (in) "Address Input", 10 A2 (in) "Address Input", 11 A1 (in) "Address Input", 12 A0 (in) "Address Input", 13 I/O0 (io) "Input/Output", 14 I/O1 (io) "Input/Output", 15 I/O2 (io) "Input/Output", 16 GND (power) "Ground", 17 I/O3 (io) "Input/Output", 18 I/O4 (io) "Input/Output", 19 I/O5 (io) "Input/Output", 20 I/O6 (io) "Input/Output", 21 I/O7 (io) "Input/Output", 22 ~{CS1} (in) "Chip Enable 1 Input", 23 A10 (in) "Address Input", 24 ~{OE} (in) "Output Enable Input", 25 A11 (in) "Address Input", 26 A9 (in) "Address Input", 27 A8 (in) "Address Input", 28 A13 (in) "Address Input", 29 ~{WE} (in) "Write Enable Input", 30 A18 (in) "Address Input", 31 A15 (in) "Address Input", 32 VDD (power) "Power"

## IS62WV5128DBLL-45T2I-TR
designator U?
4 M Low Voltage, Ultra Low Power CMOS SRAM, 512 K x 8, -40 to 85 degC, 32-Pin SOP (TSOP-2-32); Manufacturer: Integrated Silicon Solution Inc (ISSI); PartNumber: IS62WV5128DBLL-45T2I-TR; Organization: 512K x 8; Packing: Tape & Reel; Speed (ns): 45; DatasheetVersion: Rev. A; PackageVersion: Rev. E, 06/2009; PackageReference: TSOP-2-32; PackageDescription: 32-Pin 400 mil TSOP-2, Body 20.95 x 10.16 mm, Pitch 1.27 mm; Mounting Technology: Surface Mount; ComponentLink1Description: Manufacturer URL; ComponentLink1URL: http://www.issi.com/US/index.shtml; ComponentLink2Description: Datasheet; ComponentLink2URL: http://www.issi.com/WW/pdf/62-65WV5128DALL-DBLL.pdf; ComponentLink3Description: Package Specification; ComponentLink3URL: http://www.issi.com/WW/pdf/61-64WV1288EEBLL.pdf
footprint ISSI-TSOP-2-32_N (SOP, 32-Leads, Body 21.1x10.3mm, Pitch 1.27mm, IPC Medium Density)
pins: 1 A17 (in) "Address Input", 2 A16 (in) "Address Input", 3 A14 (in) "Address Input", 4 A12 (in) "Address Input", 5 A7 (in) "Address Input", 6 A6 (in) "Address Input", 7 A5 (in) "Address Input", 8 A4 (in) "Address Input", 9 A3 (in) "Address Input", 10 A2 (in) "Address Input", 11 A1 (in) "Address Input", 12 A0 (in) "Address Input", 13 I/O0 (io) "Input/Output", 14 I/O1 (io) "Input/Output", 15 I/O2 (io) "Input/Output", 16 GND (power) "Ground", 17 I/O3 (io) "Input/Output", 18 I/O4 (io) "Input/Output", 19 I/O5 (io) "Input/Output", 20 I/O6 (io) "Input/Output", 21 I/O7 (io) "Input/Output", 22 ~{CS1} (in) "Chip Enable 1 Input", 23 A10 (in) "Address Input", 24 ~{OE} (in) "Output Enable Input", 25 A11 (in) "Address Input", 26 A9 (in) "Address Input", 27 A8 (in) "Address Input", 28 A13 (in) "Address Input", 29 ~{WE} (in) "Write Enable Input", 30 A18 (in) "Address Input", 31 A15 (in) "Address Input", 32 VDD (power) "Power"

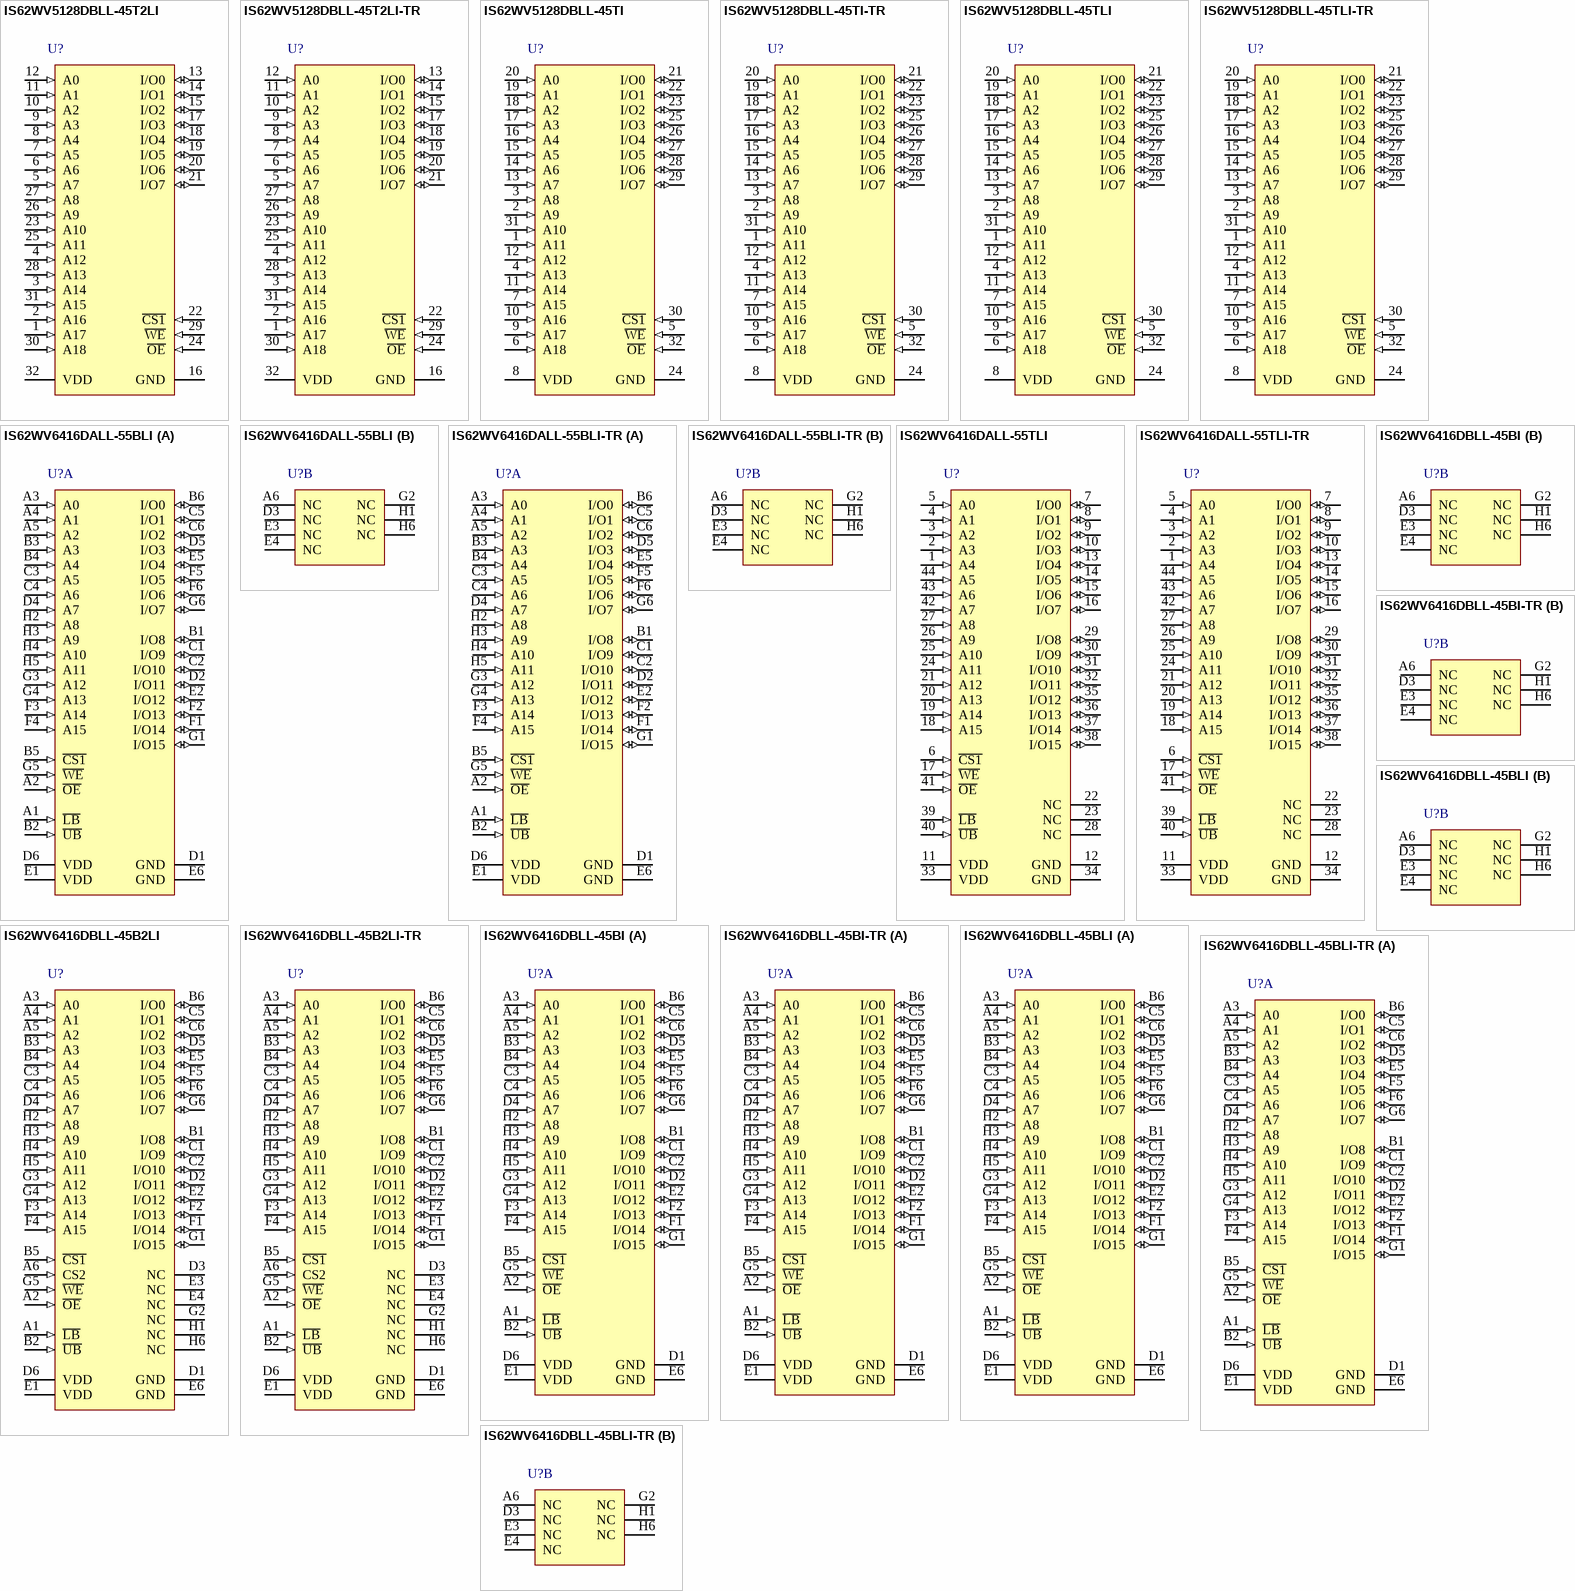
[diagram p5: symbols IS62WV5128DBLL-45T2LI to IS62WV6416DBLL-45BLI-TR]

## IS62WV5128DBLL-45T2LI
designator U?
4 M Low Voltage, Ultra Low Power CMOS SRAM, 512 K x 8, -40 to 85 degC, 32-Pin SOP (TSOP-2-32), Pb-Free; Manufacturer: Integrated Silicon Solution Inc (ISSI); PartNumber: IS62WV5128DBLL-45T2LI; Organization: 512K x 8; Packing: Tray / Tube; Speed (ns): 45; DatasheetVersion: Rev. A; PackageVersion: Rev. E, 06/2009; PackageReference: TSOP-2-32; PackageDescription: 32-Pin 400 mil TSOP-2, Body 20.95 x 10.16 mm, Pitch 1.27 mm; Supplier 1: Digi-Key; Supplier Part Number 1: 706-1151-ND; Supplier 2: Mouser; Supplier Part Number 2: 870-62WV5128DB45T2LI; RoHS: Pb-Free; Mounting Technology: Surface Mount; ComponentLink1Description: Manufacturer URL; ComponentLink1URL: http://www.issi.com/US/index.shtml; ComponentLink2Description: Datasheet; ComponentLink2URL: http://www.issi.com/WW/pdf/62-65WV5128DALL-DBLL.pdf; ComponentLink3Description: Package Specification; ComponentLink3URL: http://www.issi.com/WW/pdf/61-64WV1288EEBLL.pdf
footprint ISSI-TSOP-2-32_N (SOP, 32-Leads, Body 21.1x10.3mm, Pitch 1.27mm, IPC Medium Density)
pins: 1 A17 (in) "Address Input", 2 A16 (in) "Address Input", 3 A14 (in) "Address Input", 4 A12 (in) "Address Input", 5 A7 (in) "Address Input", 6 A6 (in) "Address Input", 7 A5 (in) "Address Input", 8 A4 (in) "Address Input", 9 A3 (in) "Address Input", 10 A2 (in) "Address Input", 11 A1 (in) "Address Input", 12 A0 (in) "Address Input", 13 I/O0 (io) "Input/Output", 14 I/O1 (io) "Input/Output", 15 I/O2 (io) "Input/Output", 16 GND (power) "Ground", 17 I/O3 (io) "Input/Output", 18 I/O4 (io) "Input/Output", 19 I/O5 (io) "Input/Output", 20 I/O6 (io) "Input/Output", 21 I/O7 (io) "Input/Output", 22 ~{CS1} (in) "Chip Enable 1 Input", 23 A10 (in) "Address Input", 24 ~{OE} (in) "Output Enable Input", 25 A11 (in) "Address Input", 26 A9 (in) "Address Input", 27 A8 (in) "Address Input", 28 A13 (in) "Address Input", 29 ~{WE} (in) "Write Enable Input", 30 A18 (in) "Address Input", 31 A15 (in) "Address Input", 32 VDD (power) "Power"

## IS62WV5128DBLL-45T2LI-TR
designator U?
4 M Low Voltage, Ultra Low Power CMOS SRAM, 512 K x 8, -40 to 85 degC, 32-Pin SOP (TSOP-2-32), Pb-Free; Manufacturer: Integrated Silicon Solution Inc (ISSI); PartNumber: IS62WV5128DBLL-45T2LI-TR; Organization: 512K x 8; Packing: Tape & Reel; Speed (ns): 45; DatasheetVersion: Rev. A; PackageVersion: Rev. E, 06/2009; PackageReference: TSOP-2-32; PackageDescription: 32-Pin 400 mil TSOP-2, Body 20.95 x 10.16 mm, Pitch 1.27 mm; Supplier 1: Newark; Supplier Part Number 1: 52T1740; Supplier 2: Mouser; Supplier Part Number 2: 870-62WV5128DB4T2LIT; RoHS: Pb-Free; Mounting Technology: Surface Mount; ComponentLink1Description: Manufacturer URL; ComponentLink1URL: http://www.issi.com/US/index.shtml; ComponentLink2Description: Datasheet; ComponentLink2URL: http://www.issi.com/WW/pdf/62-65WV5128DALL-DBLL.pdf; ComponentLink3Description: Package Specification; ComponentLink3URL: http://www.issi.com/WW/pdf/61-64WV1288EEBLL.pdf
footprint ISSI-TSOP-2-32_N (SOP, 32-Leads, Body 21.1x10.3mm, Pitch 1.27mm, IPC Medium Density)
pins: 1 A17 (in) "Address Input", 2 A16 (in) "Address Input", 3 A14 (in) "Address Input", 4 A12 (in) "Address Input", 5 A7 (in) "Address Input", 6 A6 (in) "Address Input", 7 A5 (in) "Address Input", 8 A4 (in) "Address Input", 9 A3 (in) "Address Input", 10 A2 (in) "Address Input", 11 A1 (in) "Address Input", 12 A0 (in) "Address Input", 13 I/O0 (io) "Input/Output", 14 I/O1 (io) "Input/Output", 15 I/O2 (io) "Input/Output", 16 GND (power) "Ground", 17 I/O3 (io) "Input/Output", 18 I/O4 (io) "Input/Output", 19 I/O5 (io) "Input/Output", 20 I/O6 (io) "Input/Output", 21 I/O7 (io) "Input/Output", 22 ~{CS1} (in) "Chip Enable 1 Input", 23 A10 (in) "Address Input", 24 ~{OE} (in) "Output Enable Input", 25 A11 (in) "Address Input", 26 A9 (in) "Address Input", 27 A8 (in) "Address Input", 28 A13 (in) "Address Input", 29 ~{WE} (in) "Write Enable Input", 30 A18 (in) "Address Input", 31 A15 (in) "Address Input", 32 VDD (power) "Power"

## IS62WV5128DBLL-45TI
designator U?
4 M Low Voltage, Ultra Low Power CMOS SRAM, 512 K x 8, -40 to 85 degC, 32-Pin SOP (TSOP-1-32); Manufacturer: Integrated Silicon Solution Inc (ISSI); PartNumber: IS62WV5128DBLL-45TI; Organization: 512K x 8; Packing: Tray / Tube; Speed (ns): 45; DatasheetVersion: Rev. A; PackageVersion: Rev. E, 06/2006; PackageReference: TSOP-1-32; PackageDescription: 32-Pin TSOP-1, Body 8 x 20 mm, Pitch 0.50 mm; Mounting Technology: Surface Mount; ComponentLink1Description: Manufacturer URL; ComponentLink1URL: http://www.issi.com/US/index.shtml; ComponentLink2Description: Datasheet; ComponentLink2URL: http://www.issi.com/WW/pdf/62-65WV5128DALL-DBLL.pdf; ComponentLink3Description: Package Specification; ComponentLink3URL: http://www.issi.com/WW/pdf/61-64C1024AL.pdf
footprint ISSI-TSOP-1-32-8000x20000DE_N (SOP, 32-Leads, Body 18.5x8.2mm, Pitch 0.5mm, IPC Medium Density)
pins: 1 A11 (in) "Address Input", 2 A9 (in) "Address Input", 3 A8 (in) "Address Input", 4 A13 (in) "Address Input", 5 ~{WE} (in) "Write Enable Input", 6 A18 (in) "Address Input", 7 A15 (in) "Address Input", 8 VDD (power) "Power", 9 A17 (in) "Address Input", 10 A16 (in) "Address Input", 11 A14 (in) "Address Input", 12 A12 (in) "Address Input", 13 A7 (in) "Address Input", 14 A6 (in) "Address Input", 15 A5 (in) "Address Input", 16 A4 (in) "Address Input", 17 A3 (in) "Address Input", 18 A2 (in) "Address Input", 19 A1 (in) "Address Input", 20 A0 (in) "Address Input", 21 I/O0 (io) "Input/Output", 22 I/O1 (io) "Input/Output", 23 I/O2 (io) "Input/Output", 24 GND (power) "Ground", 25 I/O3 (io) "Input/Output", 26 I/O4 (io) "Input/Output", 27 I/O5 (io) "Input/Output", 28 I/O6 (io) "Input/Output", 29 I/O7 (io) "Input/Output", 30 ~{CS1} (in) "Chip Enable 1 Input", 31 A10 (in) "Address Input", 32 ~{OE} (in) "Output Enable Input"

## IS62WV5128DBLL-45TI-TR
designator U?
4 M Low Voltage, Ultra Low Power CMOS SRAM, 512 K x 8, -40 to 85 degC, 32-Pin SOP (TSOP-1-32); Manufacturer: Integrated Silicon Solution Inc (ISSI); PartNumber: IS62WV5128DBLL-45TI-TR; Organization: 512K x 8; Packing: Tape & Reel; Speed (ns): 45; DatasheetVersion: Rev. A; PackageVersion: Rev. E, 06/2006; PackageReference: TSOP-1-32; PackageDescription: 32-Pin TSOP-1, Body 8 x 20 mm, Pitch 0.50 mm; Mounting Technology: Surface Mount; ComponentLink1Description: Manufacturer URL; ComponentLink1URL: http://www.issi.com/US/index.shtml; ComponentLink2Description: Datasheet; ComponentLink2URL: http://www.issi.com/WW/pdf/62-65WV5128DALL-DBLL.pdf; ComponentLink3Description: Package Specification; ComponentLink3URL: http://www.issi.com/WW/pdf/61-64C1024AL.pdf
footprint ISSI-TSOP-1-32-8000x20000DE_N (SOP, 32-Leads, Body 18.5x8.2mm, Pitch 0.5mm, IPC Medium Density)
pins: 1 A11 (in) "Address Input", 2 A9 (in) "Address Input", 3 A8 (in) "Address Input", 4 A13 (in) "Address Input", 5 ~{WE} (in) "Write Enable Input", 6 A18 (in) "Address Input", 7 A15 (in) "Address Input", 8 VDD (power) "Power", 9 A17 (in) "Address Input", 10 A16 (in) "Address Input", 11 A14 (in) "Address Input", 12 A12 (in) "Address Input", 13 A7 (in) "Address Input", 14 A6 (in) "Address Input", 15 A5 (in) "Address Input", 16 A4 (in) "Address Input", 17 A3 (in) "Address Input", 18 A2 (in) "Address Input", 19 A1 (in) "Address Input", 20 A0 (in) "Address Input", 21 I/O0 (io) "Input/Output", 22 I/O1 (io) "Input/Output", 23 I/O2 (io) "Input/Output", 24 GND (power) "Ground", 25 I/O3 (io) "Input/Output", 26 I/O4 (io) "Input/Output", 27 I/O5 (io) "Input/Output", 28 I/O6 (io) "Input/Output", 29 I/O7 (io) "Input/Output", 30 ~{CS1} (in) "Chip Enable 1 Input", 31 A10 (in) "Address Input", 32 ~{OE} (in) "Output Enable Input"

## IS62WV5128DBLL-45TLI
designator U?
4 M Low Voltage, Ultra Low Power CMOS SRAM, 512 K x 8, -40 to 85 degC, 32-Pin SOP (TSOP-1-32), Pb-Free; Manufacturer: Integrated Silicon Solution Inc (ISSI); PartNumber: IS62WV5128DBLL-45TLI; Organization: 512K x 8; Packing: Tray / Tube; Speed (ns): 45; DatasheetVersion: Rev. A; PackageVersion: Rev. E, 06/2006; PackageReference: TSOP-1-32; PackageDescription: 32-Pin TSOP-1, Body 8 x 20 mm, Pitch 0.50 mm; Supplier 1: Mouser; Supplier Part Number 1: 870-62WV5128DB45TLI; RoHS: Pb-Free; Mounting Technology: Surface Mount; ComponentLink1Description: Manufacturer URL; ComponentLink1URL: http://www.issi.com/US/index.shtml; ComponentLink2Description: Datasheet; ComponentLink2URL: http://www.issi.com/WW/pdf/62-65WV5128DALL-DBLL.pdf; ComponentLink3Description: Package Specification; ComponentLink3URL: http://www.issi.com/WW/pdf/61-64C1024AL.pdf
footprint ISSI-TSOP-1-32-8000x20000DE_N (SOP, 32-Leads, Body 18.5x8.2mm, Pitch 0.5mm, IPC Medium Density)
pins: 1 A11 (in) "Address Input", 2 A9 (in) "Address Input", 3 A8 (in) "Address Input", 4 A13 (in) "Address Input", 5 ~{WE} (in) "Write Enable Input", 6 A18 (in) "Address Input", 7 A15 (in) "Address Input", 8 VDD (power) "Power", 9 A17 (in) "Address Input", 10 A16 (in) "Address Input", 11 A14 (in) "Address Input", 12 A12 (in) "Address Input", 13 A7 (in) "Address Input", 14 A6 (in) "Address Input", 15 A5 (in) "Address Input", 16 A4 (in) "Address Input", 17 A3 (in) "Address Input", 18 A2 (in) "Address Input", 19 A1 (in) "Address Input", 20 A0 (in) "Address Input", 21 I/O0 (io) "Input/Output", 22 I/O1 (io) "Input/Output", 23 I/O2 (io) "Input/Output", 24 GND (power) "Ground", 25 I/O3 (io) "Input/Output", 26 I/O4 (io) "Input/Output", 27 I/O5 (io) "Input/Output", 28 I/O6 (io) "Input/Output", 29 I/O7 (io) "Input/Output", 30 ~{CS1} (in) "Chip Enable 1 Input", 31 A10 (in) "Address Input", 32 ~{OE} (in) "Output Enable Input"